# Altium integrated library Transistors$.IntLib: 24 symbols
Pins are listed as number, name and electrical type; pins without a type are passive.

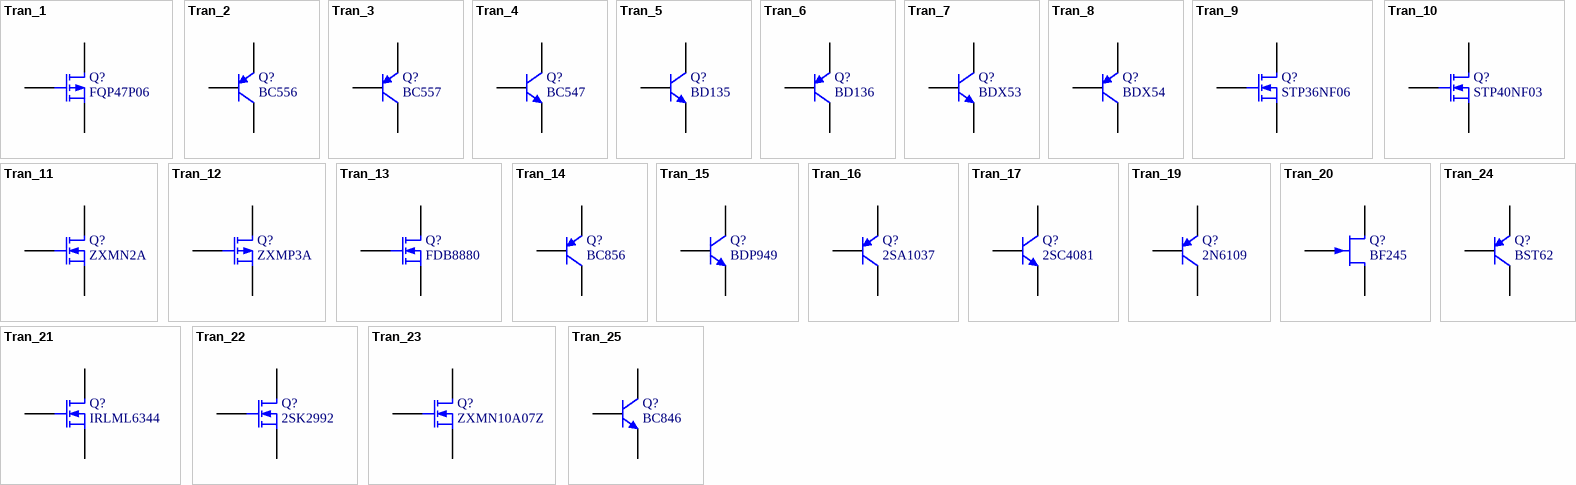
[diagram p0: symbols Tran_1 to Tran_25]

## Tran_1
designator Q?, comment FQP47P06
RS_number: 671-5127; QR: 0; Type: P; Current: 47 A; UID: Tran_1; Name: FQP47P06; Name_Hyperlink: MOSFET Transistor; ComponentLink1URL: #NAME?; mounting: THT
footprint TO_220
pins: 1 G, 2 D, 3 S

## Tran_2
designator Q?, comment BC556
RS_number: 544-9309A; QR: 0; Type: PNP; Current: 0.1 A; UID: Tran_2; Name: BC556; Name_Hyperlink: Transistor BC 556; ComponentLink1URL: #NAME?; mounting: THT
footprint TO_92
pins: 1 C, 2 B, 3 E

## Tran_3
designator Q?, comment BC557
RS_number: 131-1036; QR: 0; Type: PNP; Current: 0.1 A; UID: Tran_3; Name: BC557; Name_Hyperlink: Transistor BC 557; ComponentLink1URL: #NAME?; mounting: THT
footprint TO_92
pins: 1 C, 2 B, 3 E

## Tran_4
designator Q?, comment BC547
RS_number: 296-087A; QR: 0; Type: NPN; Current: 0.1 A; UID: Tran_4; Name: BC547; Name_Hyperlink: Transistor BC547; ComponentLink1URL: #NAME?; mounting: THT
footprint TO_92
pins: 1 C, 2 B, 3 E

## Tran_5
designator Q?, comment BD135
RS_number: 299-323A; QR: 0; Type: NPN; Current: 1.5 A; UID: Tran_5; Name: BD135; Name_Hyperlink: Transistor BD135; ComponentLink1URL: #NAME?; mounting: THT
footprint TO_126
pins: 1 E, 2 C, 3 B

## Tran_6
designator Q?, comment BD136
RS_number: 299-339A; QR: 0; Type: PNP; Current: 1.5A; UID: Tran_6; Name: BD136; Name_Hyperlink: Transistor BD136; ComponentLink1URL: #NAME?; mounting: THT
footprint TO_126
pins: 1 E, 2 C, 3 B

## Tran_7
designator Q?, comment BDX53
RS_number: 544-9898; QR: 0; Type: NPN; Current: 8 A; UID: Tran_7; Name: BDX53; Name_Hyperlink: Transistor BDX53C; ComponentLink1URL: #NAME?; mounting: THT
footprint TO_220
pins: 1 B, 2 C, 3 E

## Tran_8
designator Q?, comment BDX54
RS_number: 544-9882; QR: 0; Type: PNP; Current: 8 A; UID: Tran_8; Name: BDX54; Name_Hyperlink: Transistor BDX54C; ComponentLink1URL: #NAME?; mounting: THT
footprint TO_220
pins: 1 B, 2 C, 3 E

## Tran_9
designator Q?, comment STP36NF06
RS_number: 486-2278; QR: 0; Type: N; Current: 18 A; UID: Tran_9; Name: STP36NF06; Name_Hyperlink: Transistor STP36NF06FP; ComponentLink1URL: #NAME?; mounting: THT
footprint TO_220
pins: 1 G, 2 D, 3 S

## Tran_10
designator Q?, comment STP40NF03
RS_number: 486-2284; QR: 0; Type: N; Current: 40 A; UID: Tran_10; Name: STP40NF03; Name_Hyperlink: Transistor STP40NF03L; ComponentLink1URL: #NAME?; mounting: THT
footprint TO_220
pins: 1 G, 2 D, 3 S

## Tran_11
designator Q?, comment ZXMN2A
RS_number: 669-7685P; QR: 0; Type: N; Current: 2.2 A; UID: Tran_11; Name: ZXMN2A; Name_Hyperlink: MOSFET; ComponentLink1URL: #NAME?; mounting: SMD
footprint SOT_23
pins: 1 G, 2 S, 3 D

## Tran_12
designator Q?, comment ZXMP3A
RS_number: 669-7518P; QR: 0; Type: P; Current: 1.6 A; UID: Tran_12; Name: ZXMP3A; Name_Hyperlink: MOSFET; ComponentLink1URL: #NAME?; mounting: SMD
footprint SOT_23
pins: 1 G, 2 S, 3 D

## Tran_13
designator Q?, comment FDB8880
RS_number: 759-9005; QR: 0; Type: N; Current: 54 A; UID: Tran_13; Name: FDB8880; Name_Hyperlink: FDB8880; ComponentLink1URL: #NAME?; mounting: SMD
footprint TO_263
pins: 1 G, 2 S, 3 D

## Tran_14
designator Q?, comment BC856
RS_number: 445-2045; QR: 0; Type: PNP; Current: 0.1 A; UID: Tran_14; Name: BC856; Name_Hyperlink: BC856B; ComponentLink1URL: #NAME?; mounting: SMD
footprint SOT_23
pins: 1 B, 2 E, 3 C

## Tran_15
designator Q?, comment BDP949
RS_number: 445-2146; QR: 0; Type: NPN; Current: 3 A; UID: Tran_15; Name: BDP949; Name_Hyperlink: BDP949; ComponentLink1URL: #NAME?; mounting: SMD
footprint SOT_223
pins: 1 B, 2 C, 3 E

## Tran_16
designator Q?, comment 2SA1037
QR: 0; Type: PNP; Current: 0.4 A; UID: Tran_16; Name: 2SA1037; ComponentLink1URL: #NAME?; mounting: SMD
footprint SOT_23
pins: 1 B, 2 E, 3 C

## Tran_17
designator Q?, comment 2SC4081
QR: 0; Type: NPN; Current: 0.15 A; UID: Tran_17; Name: 2SC4081; ComponentLink1URL: #NAME?; mounting: SMD
footprint SOT_23_2
pins: 1 B, 2 E, 3 C

## Tran_19
designator Q?, comment 2N6109
QR: 0; Type: PNP; Current: 7A; UID: Tran_19; Name: 2N6109; ComponentLink1URL: #NAME?; mounting: THT
footprint TO_220
pins: 1 B, 2 C, 3 E

## Tran_20
designator Q?, comment BF245
RS_number: 626-2276; QR: 0; Type: N; Current: 0A015; UID: Tran_20; Name: BF245; Name_Hyperlink: http://at.rs-online.com/web/p/transistoren-jfet/6715389/; ComponentLink1URL: #NAME?; mounting: THT
footprint TO_92
pins: 1 D, 2 S, 3 G

## Tran_21
designator Q?, comment IRLML6344
RS_number: 737-7225; QR: 0; Type: N; Current: 5A; UID: Tran_21; Name: IRLML6344; Name_Hyperlink: http://at.rs-online.com/web/p/transistoren-mosfet/7377225/?searchTerm=737-7225&relevancy-data=636F3D3126696E3D4931384E525353746F636B4E756D6265724D504E266C753D656E266D6D3D6D61746368616C6C26706D3D5E5C647B337D5B5C732D2F255C2E2C5D5C647B332C347D2426706F3D31342; ComponentLink1URL: #NAME?; mounting: SMD
footprint SOT_23
pins: 1 G, 2 S, 3 D

## Tran_22
designator Q?, comment 2SK2992
RS_number: 415-225; QR: 0; Type: N; Current: 1A; UID: Tran_22; Name: 2SK2992; ComponentLink1URL: #NAME?; mounting: SMD
footprint SOT_89_2
pins: 1 G, 2 D, 3 S

## Tran_23
designator Q?, comment ZXMN10A07Z
RS_number: 669-7401; QR: 0; Type: N; Current: 1.4A; UID: Tran_23; Name: ZXMN10A07Z; ComponentLink1URL: #NAME?; mounting: SMD
footprint SOT_89
pins: 1 G, 2 D, 3 S

## Tran_24
designator Q?, comment BST62
RS_number: 792-0914; QR: 0; Type: PNP Dar.; Current: 1A; UID: Tran_24; Name: BST62; Name_Hyperlink: http://at.rs-online.com/web/p/products/7920914/; ComponentLink1URL: #NAME?; mounting: SMD
footprint SOT_89
pins: 1 B, 2 C, 3 E

## Tran_25
designator Q?, comment BC846
RS_number: 781-3945; QR: 0; Type: NPN; Current: 0.1 A; UID: Tran_25; Name: BC846; Name_Hyperlink: BC846; ComponentLink1URL: #NAME?; mounting: SMD
footprint SOT_23
pins: 1 B, 2 E, 3 C